# Altium footprint library FFC_FPC_P0.5.PcbLib: 41 footprints (part 1 of 3)
Each footprint in its own frame and in the unit in brackets; x right, y up, seen from the top. Pads: shape width x height; smd on the part's side, far side on the other; paste and mask are expansions set on the pad; w line width, h text height; cw(c..) or ccw(c..) is an arc to the next point about the centre after c.
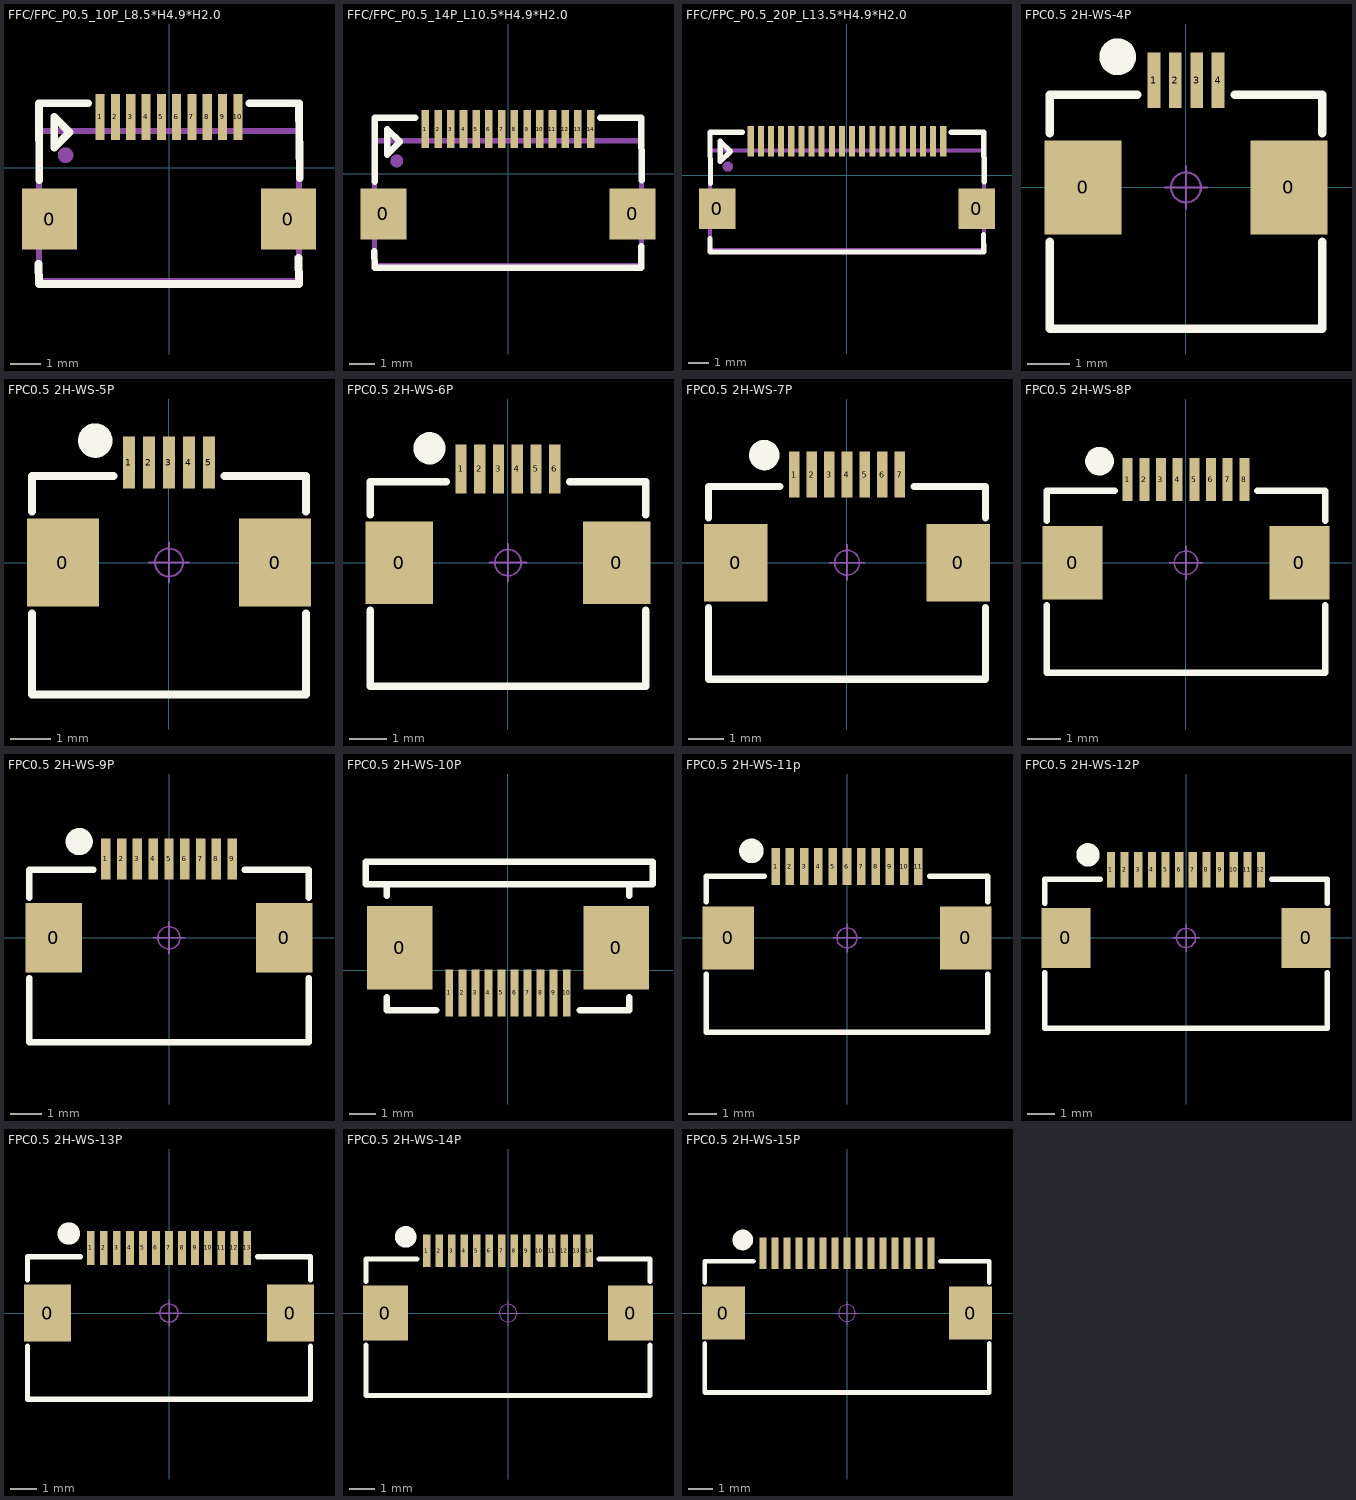
[diagram p0: the footprints below, top view; thin cyan lines are the x and y axes]

## FFC/FPC_P0.5_10P_L8.5*H4.9*H2.0 [mm]
pads (12):
  rect 1.8x2 smd: 0(-3.9,-1.668) 0(3.9,-1.668)
  rect 0.3x1.5 smd: 1(-2.25,1.668) 2(-1.75,1.668) 3(-1.25,1.668) 4(-0.75,1.668) 5(-0.25,1.668) 6(0.25,1.668) 7(0.75,1.668) 8(1.25,1.668) 9(1.75,1.668) 10(2.25,1.668)
Top Overlay:
  lines w0.254: -4.263,-3.132 -4.25,-3.792 4.248,-3.792 ; -4.25,2.113 -4.237,-0.403 ; -4.224,2.113 -2.649,2.113 ; 2.631,2.113 4.25,2.113 4.268,-0.336 ; 4.234,-2.943 4.25,-3.792 ; -3.75,0.668 -3.25,1.168 -3.75,1.668 -3.75,0.668
Mechanical 15:
  circle w0.254: c-3.377,0.418 r0.127
  lines w0.203: -4.25,-3.692 4.25,-3.692 4.25,1.208 -4.25,1.208 -4.25,-3.692

## FFC/FPC_P0.5_14P_L10.5*H4.9*H2.0 [mm]
pads (16):
  rect 1.8x2 smd: 0(-4.9,-1.585) 0(4.9,-1.585)
  rect 0.3x1.5 smd: 1(-3.25,1.75) 2(-2.75,1.75) 3(-2.25,1.75) 4(-1.75,1.75) 5(-1.25,1.75) 6(-0.75,1.75) 7(-0.25,1.75) 8(0.25,1.75) 9(0.75,1.75) 10(1.25,1.75) 11(1.75,1.75) 12(2.25,1.75) 13(2.75,1.75) 14(3.25,1.75)
Top Overlay:
  lines w0.254: -5.263,-3.049 -5.25,-3.71 5.25,-3.71 5.234,-2.861 ; -5.25,2.195 -5.237,-0.321 ; -5.224,2.195 -3.649,2.195 ; 3.631,2.195 5.25,2.195 5.268,-0.253 ; -4.75,0.75 -4.75,1.75 -4.25,1.25 -4.75,0.75
Mechanical 15:
  circle w0.254: c-4.377,0.5 r0.127
  lines w0.203: -5.25,-3.61 -5.25,1.29 5.25,1.29 5.25,-3.61 -5.25,-3.61

## FFC/FPC_P0.5_20P_L13.5*H4.9*H2.0 [mm]
pads (22):
  rect 1.8x2 smd: 0(-6.4,-1.668) 0(6.4,-1.668)
  rect 0.3x1.5 smd: 1(-4.75,1.668) 2(-4.25,1.668) 3(-3.75,1.668) 4(-3.25,1.668) 5(-2.75,1.668) 6(-2.25,1.668) 7(-1.75,1.668) 8(-1.25,1.668) 9(-0.75,1.668) 10(-0.25,1.668) 11(0.25,1.668) 12(0.75,1.668) 13(1.25,1.668) 14(1.75,1.668) 15(2.25,1.668) 16(2.75,1.668) 17(3.25,1.668) 18(3.75,1.668) 19(4.25,1.668) 20(4.75,1.668)
Top Overlay:
  lines w0.254: -6.763,-3.132 -6.75,-3.792 6.75,-3.792 6.734,-2.943 ; -6.75,2.113 -6.737,-0.403 ; -6.724,2.113 -5.149,2.113 ; 5.131,2.113 6.75,2.113 6.768,-0.336 ; -6.25,0.668 -5.75,1.168 -6.25,1.668 -6.25,0.668
Mechanical 15:
  circle w0.254: c-5.877,0.418 r0.127
  lines w0.203: -6.75,-3.692 6.75,-3.692 6.75,1.208 -6.75,1.208 -6.75,-3.692

## FFC/FPC_P0.5_24P_L16*H4.9*H2.0 [mm]

## FPC0.5 2H-WS-4P [mm] "长：6.2mm，宽：5.2mm，高：2mm"
pads (6):
  rect 1.8x2.2 smd: 0(-2.4,0) 0(2.4,0)
  rect 0.3x1.3 smd: 1(-0.75,2.497) 2(-0.25,2.497) 3(0.25,2.497) 4(0.75,2.497)
Top Overlay:
  circle w0.5: c-1.594,3.048 r0.18
  lines w0.2: -3.175,-1.27 -3.175,-3.302 3.175,-3.302 3.175,-1.27 ; -3.175,1.27 -3.175,2.159 -1.143,2.159 ; 1.143,2.159 3.175,2.159 3.175,1.27
Mechanical 15:
  circle w0.05: c0,0 r0.35
  lines w0.05: -0.5,0 0.5,0 ; 0,-0.5 0,0.5
3D body "FPC0.5 2H-S-W-4P.STEP": height 2, standoff -0.01, extent -3.1,-3.15 3.1,2.85

## FPC0.5 2H-WS-5P [mm] "长：6.7mm，宽：5.2mm，高：2mm"
pads (7):
  rect 1.8x2.2 smd: 0(-2.65,0) 0(2.65,0)
  rect 0.3x1.3 smd: 1(-1,2.497) 2(-0.5,2.497) 3(0,2.497) 4(0.5,2.497) 5(1,2.497)
Top Overlay:
  circle w0.5: c-1.844,3.048 r0.18
  lines w0.2: -3.425,-1.27 -3.425,-3.302 3.425,-3.302 3.425,-1.27 ; -3.425,1.27 -3.425,2.159 -1.393,2.159 ; 1.393,2.159 3.425,2.159 3.425,1.27
Mechanical 15:
  circle w0.05: c0,0 r0.35
  lines w0.05: -0.5,0 0.5,0 ; 0,-0.5 0,0.5
3D body "FPC0.5 2H-S-W-5P.STEP": height 2, standoff -0.01, extent -3.35,-3.15 3.35,2.85

## FPC0.5 2H-WS-6P [mm] "长：7.2mm，宽：5.2mm，高：2mm"
pads (8):
  rect 1.8x2.2 smd: 0(-2.9,0) 0(2.9,0)
  rect 0.3x1.3 smd: 1(-1.25,2.497) 2(-0.75,2.497) 3(-0.25,2.497) 4(0.25,2.497) 5(0.75,2.497) 6(1.25,2.497)
Top Overlay:
  circle w0.5: c-2.094,3.048 r0.18
  lines w0.2: -3.675,-1.27 -3.675,-3.302 3.675,-3.302 3.675,-1.27 ; -3.675,1.27 -3.675,2.159 -1.643,2.159 ; 1.643,2.159 3.675,2.159 3.675,1.27
Mechanical 15:
  circle w0.05: c0,0 r0.35
  lines w0.05: -0.5,0 0.5,0 ; 0,-0.5 0,0.5
3D body "FPC0.5 2H-S-W-6P.STEP": height 2, standoff -0.01, extent -3.6,-3.15 3.6,2.85

## FPC0.5 2H-WS-7P [mm] "长：7.7mm，宽：5.2mm，高：2mm"
pads (9):
  rect 1.8x2.2 smd: 0(-3.15,0) 0(3.15,0)
  rect 0.3x1.3 smd: 1(-1.5,2.497) 2(-1,2.497) 3(-0.5,2.497) 4(0,2.497) 5(0.5,2.497) 6(1,2.497) 7(1.5,2.497)
Top Overlay:
  circle w0.5: c-2.344,3.048 r0.18
  lines w0.2: -3.925,-1.27 -3.925,-3.302 3.925,-3.302 3.925,-1.27 ; -3.925,1.27 -3.925,2.159 -1.893,2.159 ; 1.893,2.159 3.925,2.159 3.925,1.27
Mechanical 15:
  circle w0.05: c0,0 r0.35
  lines w0.05: -0.5,0 0.5,0 ; 0,-0.5 0,0.5
3D body "FPC0.5 2H-S-W-7P.STEP": height 2, standoff -0.01, extent -3.85,-3.15 3.85,2.85

## FPC0.5 2H-WS-8P [mm] "长：8.2mm，宽：5.2mm，高：2mm"
pads (10):
  rect 1.8x2.2 smd: 0(-3.4,0) 0(3.4,0)
  rect 0.3x1.3 smd: 1(-1.75,2.497) 2(-1.25,2.497) 3(-0.75,2.497) 4(-0.25,2.497) 5(0.25,2.497) 6(0.75,2.497) 7(1.25,2.497) 8(1.75,2.497)
Top Overlay:
  circle w0.5: c-2.594,3.048 r0.18
  lines w0.2: -4.175,-1.27 -4.175,-3.302 4.175,-3.302 4.175,-1.27 ; -4.175,1.27 -4.175,2.159 -2.143,2.159 ; 2.143,2.159 4.175,2.159 4.175,1.27
Mechanical 15:
  circle w0.05: c0,0 r0.35
  lines w0.05: -0.5,0 0.5,0 ; 0,-0.5 0,0.5
3D body "FPC0.5 2H-S-W-8P.STEP": height 2, standoff -0.01, extent -4.1,-3.15 4.1,2.85

## FPC0.5 2H-WS-9P [mm] "长：8.7mm，宽：5.2mm，高：2mm"
pads (11):
  rect 1.8x2.2 smd: 0(-3.65,0) 0(3.65,0)
  rect 0.3x1.3 smd: 1(-2,2.497) 2(-1.5,2.497) 3(-1,2.497) 4(-0.5,2.497) 5(0,2.497) 6(0.5,2.497) 7(1,2.497) 8(1.5,2.497) 9(2,2.497)
Top Overlay:
  circle w0.5: c-2.844,3.048 r0.18
  lines w0.2: -4.425,-1.27 -4.425,-3.302 4.425,-3.302 4.425,-1.27 ; -4.425,1.27 -4.425,2.159 -2.393,2.159 ; 2.393,2.159 4.425,2.159 4.425,1.27
Mechanical 15:
  circle w0.05: c0,0 r0.35
  lines w0.05: -0.5,0 0.5,0 ; 0,-0.5 0,0.5
3D body "FPC0.5 2H-S-W-9P.STEP": height 2, standoff -0.01, extent -4.35,-3.15 4.35,2.85

## FPC0.5 2H-WS-10P [mm]
pads (12):
  rect 2.5x3.2 smd: 0(-4.15,0.863) 0(4.15,0.863)
  rect 0.3x1.8 smd: 1(-2.25,-0.862) 2(-1.75,-0.862) 3(-1.25,-0.862) 4(-0.75,-0.862) 5(-0.25,-0.862) 6(0.25,-0.862) 7(0.75,-0.862) 8(1.25,-0.862) 9(1.75,-0.862) 10(2.25,-0.862)
Top Overlay:
  lines w0.254: -4.65,-1.037 -4.65,-1.537 -2.75,-1.537 ; -4.65,2.863 -4.65,3.303 ; 2.75,-1.537 4.65,-1.537 4.65,-1.037 ; 4.65,2.863 4.65,3.303 ; -5.45,3.303 -5.45,4.163 5.55,4.163 5.55,3.303 -5.45,3.303

## FPC0.5 2H-WS-11p [mm] "长：9.7mm，宽：5.2mm，高：2mm"
pads (13):
  rect 1.8x2.2 smd: 0(-4.15,0) 0(4.15,0)
  rect 0.3x1.3 smd: 1(-2.5,2.497) 2(-2,2.497) 3(-1.5,2.497) 4(-1,2.497) 5(-0.5,2.497) 6(0,2.497) 7(0.5,2.497) 8(1,2.497) 9(1.5,2.497) 10(2,2.497) 11(2.5,2.497)
Top Overlay:
  circle w0.5: c-3.344,3.048 r0.18
  lines w0.2: -4.925,-1.27 -4.925,-3.302 4.925,-3.302 4.925,-1.27 ; -4.925,1.27 -4.925,2.159 -2.893,2.159 ; 2.893,2.159 4.925,2.159 4.925,1.27
Mechanical 15:
  circle w0.05: c0,0 r0.35
  lines w0.05: -0.5,0 0.5,0 ; 0,-0.5 0,0.5
3D body "FPC0.5 2H-S-W-11P.STEP": height 2, standoff -0.01, extent -4.85,-3.15 4.85,2.85

## FPC0.5 2H-WS-12P [mm] "长：10.2mm，宽：5.2mm，高：2mm"
pads (14):
  rect 1.8x2.2 smd: 0(-4.4,0) 0(4.4,0)
  rect 0.3x1.3 smd: 1(-2.75,2.497) 2(-2.25,2.497) 3(-1.75,2.497) 4(-1.25,2.497) 5(-0.75,2.497) 6(-0.25,2.497) 7(0.25,2.497) 8(0.75,2.497) 9(1.25,2.497) 10(1.75,2.497) 11(2.25,2.497) 12(2.75,2.497)
Top Overlay:
  circle w0.5: c-3.594,3.048 r0.18
  lines w0.2: -5.175,-1.27 -5.175,-3.302 5.175,-3.302 5.175,-1.27 ; -5.175,1.27 -5.175,2.159 -3.143,2.159 ; 3.143,2.159 5.175,2.159 5.175,1.27
Mechanical 15:
  circle w0.05: c0,0 r0.35
  lines w0.05: -0.5,0 0.5,0 ; 0,-0.5 0,0.5
3D body "FPC0.5 2H-S-W-12P.STEP": height 2, standoff -0.01, extent -5.1,-3.15 5.1,2.85

## FPC0.5 2H-WS-13P [mm] "长：10.7mm，宽：5.2mm，高：2mm"
pads (15):
  rect 1.8x2.2 smd: 0(-4.65,0) 0(4.65,0)
  rect 0.3x1.3 smd: 1(-3,2.497) 2(-2.5,2.497) 3(-2,2.497) 4(-1.5,2.497) 5(-1,2.497) 6(-0.5,2.497) 7(0,2.497) 8(0.5,2.497) 9(1,2.497) 10(1.5,2.497) 11(2,2.497) 12(2.5,2.497) 13(3,2.497)
Top Overlay:
  circle w0.5: c-3.844,3.048 r0.18
  lines w0.2: -5.425,-1.27 -5.425,-3.302 5.425,-3.302 5.425,-1.27 ; -5.425,1.27 -5.425,2.159 -3.393,2.159 ; 3.393,2.159 5.425,2.159 5.425,1.27
Mechanical 15:
  circle w0.05: c0,0 r0.35
  lines w0.05: -0.5,0 0.5,0 ; 0,-0.5 0,0.5
3D body "FPC0.5 2H-S-W-13P.STEP": height 2, standoff -0.01, extent -5.35,-3.15 5.35,2.85

## FPC0.5 2H-WS-14P [mm] "长：11.2mm，宽：5.2mm，高：2mm"
pads (16):
  rect 1.8x2.2 smd: 0(-4.9,0) 0(4.9,0)
  rect 0.3x1.3 smd: 1(-3.25,2.497) 2(-2.75,2.497) 3(-2.25,2.497) 4(-1.75,2.497) 5(-1.25,2.497) 6(-0.75,2.497) 7(-0.25,2.497) 8(0.25,2.497) 9(0.75,2.497) 10(1.25,2.497) 11(1.75,2.497) 12(2.25,2.497) 13(2.75,2.497) 14(3.25,2.497)
Top Overlay:
  circle w0.5: c-4.094,3.048 r0.18
  lines w0.2: -5.675,-1.27 -5.675,-3.302 5.675,-3.302 5.675,-1.27 ; -5.675,1.27 -5.675,2.159 -3.643,2.159 ; 3.643,2.159 5.675,2.159 5.675,1.27
Mechanical 15:
  circle w0.05: c0,0 r0.35
  lines w0.05: -0.5,0 0.5,0 ; 0,-0.5 0,0.5
3D body "FPC0.5 2H-S-W-14P.STEP": height 2, standoff -0.01, extent -5.6,-3.15 5.6,2.85

## FPC0.5 2H-WS-15P [mm] "长：11.7mm，宽：5.2mm，高：2mm"
pads (17):
  rect 1.8x2.2 smd: 0(-5.15,0) 0(5.15,0)
  rect 0.3x1.3 smd: 1(-3.5,2.497) 2(-3,2.497) 3(-2.5,2.497) 4(-2,2.497) 5(-1.5,2.497) 6(-1,2.497) 7(-0.5,2.497) 8(0,2.497) 9(0.5,2.497) 10(1,2.497) 11(1.5,2.497) 12(2,2.497) 13(2.5,2.497) 14(3,2.497) 15(3.5,2.497)
Top Overlay:
  circle w0.5: c-4.344,3.048 r0.18
  lines w0.2: -5.925,-1.27 -5.925,-3.302 5.925,-3.302 5.925,-1.27 ; -5.925,1.27 -5.925,2.159 -3.893,2.159 ; 3.893,2.159 5.925,2.159 5.925,1.27
Mechanical 15:
  circle w0.05: c0,0 r0.35
  lines w0.05: -0.5,0 0.5,0 ; 0,-0.5 0,0.5
3D body "FPC0.5 2H-S-W-15P.STEP": height 2, standoff -0.01, extent -5.85,-3.15 5.85,2.85